# Altium schematic symbol library SCH - MCU - NUVOTON - NUVOTON M481SE8AE.SchLib: 1 symbol
Pins are listed as number, name and electrical type; pins without a type are passive.

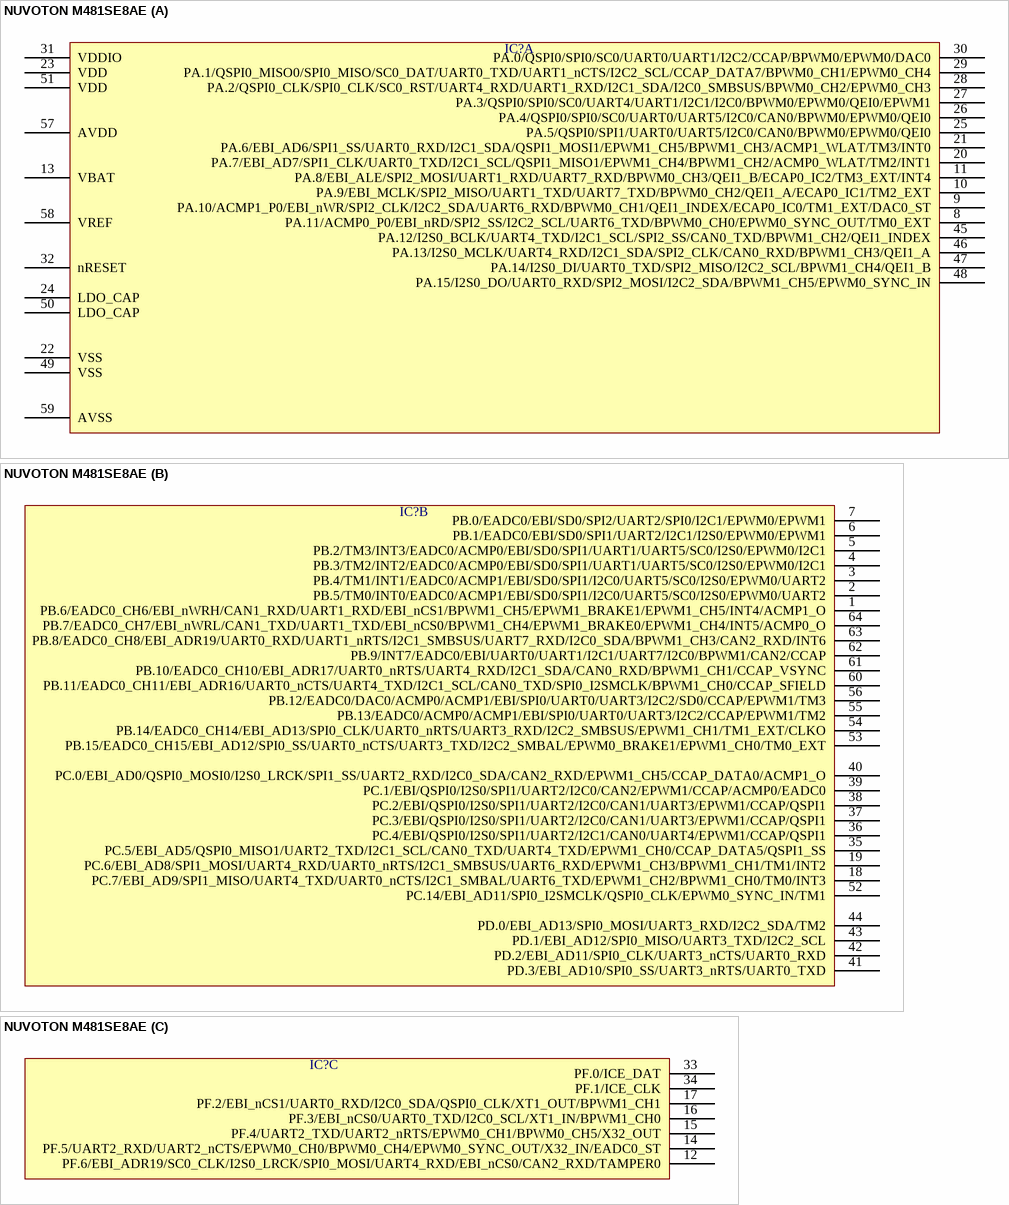
[diagram p0: symbol NUVOTON M481SE8AE]

## NUVOTON M481SE8AE
designator IC?  (value not drawn)
part A pins: 8 PA.11/ACMP0_P0/EBI_nRD/SPI2_SS/I2C2_SCL/UART6_TXD/BPWM0_CH0/EPWM0_SYNC_OUT/TM0_EXT, 9 PA.10/ACMP1_P0/EBI_nWR/SPI2_CLK/I2C2_SDA/UART6_RXD/BPWM0_CH1/QEI1_INDEX/ECAP0_IC0/TM1_EXT/DAC0_ST, 10 PA.9/EBI_MCLK/SPI2_MISO/UART1_TXD/UART7_TXD/BPWM0_CH2/QEI1_A/ECAP0_IC1/TM2_EXT, 11 PA.8/EBI_ALE/SPI2_MOSI/UART1_RXD/UART7_RXD/BPWM0_CH3/QEI1_B/ECAP0_IC2/TM3_EXT/INT4, 13 VBAT, 20 PA.7/EBI_AD7/SPI1_CLK/UART0_TXD/I2C1_SCL/QSPI1_MISO1/EPWM1_CH4/BPWM1_CH2/ACMP0_WLAT/TM2/INT1, 21 PA.6/EBI_AD6/SPI1_SS/UART0_RXD/I2C1_SDA/QSPI1_MOSI1/EPWM1_CH5/BPWM1_CH3/ACMP1_WLAT/TM3/INT0, 22 VSS, 23 VDD, 24 LDO_CAP, 25 PA.5/QSPI0/SPI1/UART0/UART5/I2C0/CAN0/BPWM0/EPWM0/QEI0, 26 PA.4/QSPI0/SPI0/SC0/UART0/UART5/I2C0/CAN0/BPWM0/EPWM0/QEI0, 27 PA.3/QSPI0/SPI0/SC0/UART4/UART1/I2C1/I2C0/BPWM0/EPWM0/QEI0/EPWM1, 28 PA.2/QSPI0_CLK/SPI0_CLK/SC0_RST/UART4_RXD/UART1_RXD/I2C1_SDA/I2C0_SMBSUS/BPWM0_CH2/EPWM0_CH3, 29 PA.1/QSPI0_MISO0/SPI0_MISO/SC0_DAT/UART0_TXD/UART1_nCTS/I2C2_SCL/CCAP_DATA7/BPWM0_CH1/EPWM0_CH4, 30 PA.0/QSPI0/SPI0/SC0/UART0/UART1/I2C2/CCAP/BPWM0/EPWM0/DAC0, 31 VDDIO, 32 nRESET, 45 PA.12/I2S0_BCLK/UART4_TXD/I2C1_SCL/SPI2_SS/CAN0_TXD/BPWM1_CH2/QEI1_INDEX, 46 PA.13/I2S0_MCLK/UART4_RXD/I2C1_SDA/SPI2_CLK/CAN0_RXD/BPWM1_CH3/QEI1_A, 47 PA.14/I2S0_DI/UART0_TXD/SPI2_MISO/I2C2_SCL/BPWM1_CH4/QEI1_B, 48 PA.15/I2S0_DO/UART0_RXD/SPI2_MOSI/I2C2_SDA/BPWM1_CH5/EPWM0_SYNC_IN, 49 VSS, 50 LDO_CAP, 51 VDD, 57 AVDD, 58 VREF, 59 AVSS
part B pins: 1 PB.6/EADC0_CH6/EBI_nWRH/CAN1_RXD/UART1_RXD/EBI_nCS1/BPWM1_CH5/EPWM1_BRAKE1/EPWM1_CH5/INT4/ACMP1_O, 2 PB.5/TM0/INT0/EADC0/ACMP1/EBI/SD0/SPI1/I2C0/UART5/SC0/I2S0/EPWM0/UART2, 3 PB.4/TM1/INT1/EADC0/ACMP1/EBI/SD0/SPI1/I2C0/UART5/SC0/I2S0/EPWM0/UART2, 4 PB.3/TM2/INT2/EADC0/ACMP0/EBI/SD0/SPI1/UART1/UART5/SC0/I2S0/EPWM0/I2C1, 5 PB.2/TM3/INT3/EADC0/ACMP0/EBI/SD0/SPI1/UART1/UART5/SC0/I2S0/EPWM0/I2C1, 6 PB.1/EADC0/EBI/SD0/SPI1/UART2/I2C1/I2S0/EPWM0/EPWM1, 7 PB.0/EADC0/EBI/SD0/SPI2/UART2/SPI0/I2C1/EPWM0/EPWM1, 18 PC.7/EBI_AD9/SPI1_MISO/UART4_TXD/UART0_nCTS/I2C1_SMBAL/UART6_TXD/EPWM1_CH2/BPWM1_CH0/TM0/INT3, 19 PC.6/EBI_AD8/SPI1_MOSI/UART4_RXD/UART0_nRTS/I2C1_SMBSUS/UART6_RXD/EPWM1_CH3/BPWM1_CH1/TM1/INT2, 35 PC.5/EBI_AD5/QSPI0_MISO1/UART2_TXD/I2C1_SCL/CAN0_TXD/UART4_TXD/EPWM1_CH0/CCAP_DATA5/QSPI1_SS, 36 PC.4/EBI/QSPI0/I2S0/SPI1/UART2/I2C1/CAN0/UART4/EPWM1/CCAP/QSPI1, 37 PC.3/EBI/QSPI0/I2S0/SPI1/UART2/I2C0/CAN1/UART3/EPWM1/CCAP/QSPI1, 38 PC.2/EBI/QSPI0/I2S0/SPI1/UART2/I2C0/CAN1/UART3/EPWM1/CCAP/QSPI1, 39 PC.1/EBI/QSPI0/I2S0/SPI1/UART2/I2C0/CAN2/EPWM1/CCAP/ACMP0/EADC0, 40 PC.0/EBI_AD0/QSPI0_MOSI0/I2S0_LRCK/SPI1_SS/UART2_RXD/I2C0_SDA/CAN2_RXD/EPWM1_CH5/CCAP_DATA0/ACMP1_O, 41 PD.3/EBI_AD10/SPI0_SS/UART3_nRTS/UART0_TXD, 42 PD.2/EBI_AD11/SPI0_CLK/UART3_nCTS/UART0_RXD, 43 PD.1/EBI_AD12/SPI0_MISO/UART3_TXD/I2C2_SCL, 44 PD.0/EBI_AD13/SPI0_MOSI/UART3_RXD/I2C2_SDA/TM2, 52 PC.14/EBI_AD11/SPI0_I2SMCLK/QSPI0_CLK/EPWM0_SYNC_IN/TM1, 53 PB.15/EADC0_CH15/EBI_AD12/SPI0_SS/UART0_nCTS/UART3_TXD/I2C2_SMBAL/EPWM0_BRAKE1/EPWM1_CH0/TM0_EXT, 54 PB.14/EADC0_CH14/EBI_AD13/SPI0_CLK/UART0_nRTS/UART3_RXD/I2C2_SMBSUS/EPWM1_CH1/TM1_EXT/CLKO, 55 PB.13/EADC0/ACMP0/ACMP1/EBI/SPI0/UART0/UART3/I2C2/CCAP/EPWM1/TM2, 56 PB.12/EADC0/DAC0/ACMP0/ACMP1/EBI/SPI0/UART0/UART3/I2C2/SD0/CCAP/EPWM1/TM3, 60 PB.11/EADC0_CH11/EBI_ADR16/UART0_nCTS/UART4_TXD/I2C1_SCL/CAN0_TXD/SPI0_I2SMCLK/BPWM1_CH0/CCAP_SFIELD, 61 PB.10/EADC0_CH10/EBI_ADR17/UART0_nRTS/UART4_RXD/I2C1_SDA/CAN0_RXD/BPWM1_CH1/CCAP_VSYNC, 62 PB.9/INT7/EADC0/EBI/UART0/UART1/I2C1/UART7/I2C0/BPWM1/CAN2/CCAP, 63 PB.8/EADC0_CH8/EBI_ADR19/UART0_RXD/UART1_nRTS/I2C1_SMBSUS/UART7_RXD/I2C0_SDA/BPWM1_CH3/CAN2_RXD/INT6, 64 PB.7/EADC0_CH7/EBI_nWRL/CAN1_TXD/UART1_TXD/EBI_nCS0/BPWM1_CH4/EPWM1_BRAKE0/EPWM1_CH4/INT5/ACMP0_O
part C pins: 12 PF.6/EBI_ADR19/SC0_CLK/I2S0_LRCK/SPI0_MOSI/UART4_RXD/EBI_nCS0/CAN2_RXD/TAMPER0, 14 PF.5/UART2_RXD/UART2_nCTS/EPWM0_CH0/BPWM0_CH4/EPWM0_SYNC_OUT/X32_IN/EADC0_ST, 15 PF.4/UART2_TXD/UART2_nRTS/EPWM0_CH1/BPWM0_CH5/X32_OUT, 16 PF.3/EBI_nCS0/UART0_TXD/I2C0_SCL/XT1_IN/BPWM1_CH0, 17 PF.2/EBI_nCS1/UART0_RXD/I2C0_SDA/QSPI0_CLK/XT1_OUT/BPWM1_CH1, 33 PF.0/ICE_DAT, 34 PF.1/ICE_CLK